# EAGLE library part CON-3M_2540- (library CFT-PB0-revB)
3M (TM) Pak 100 4-Wall Header Source: 3M
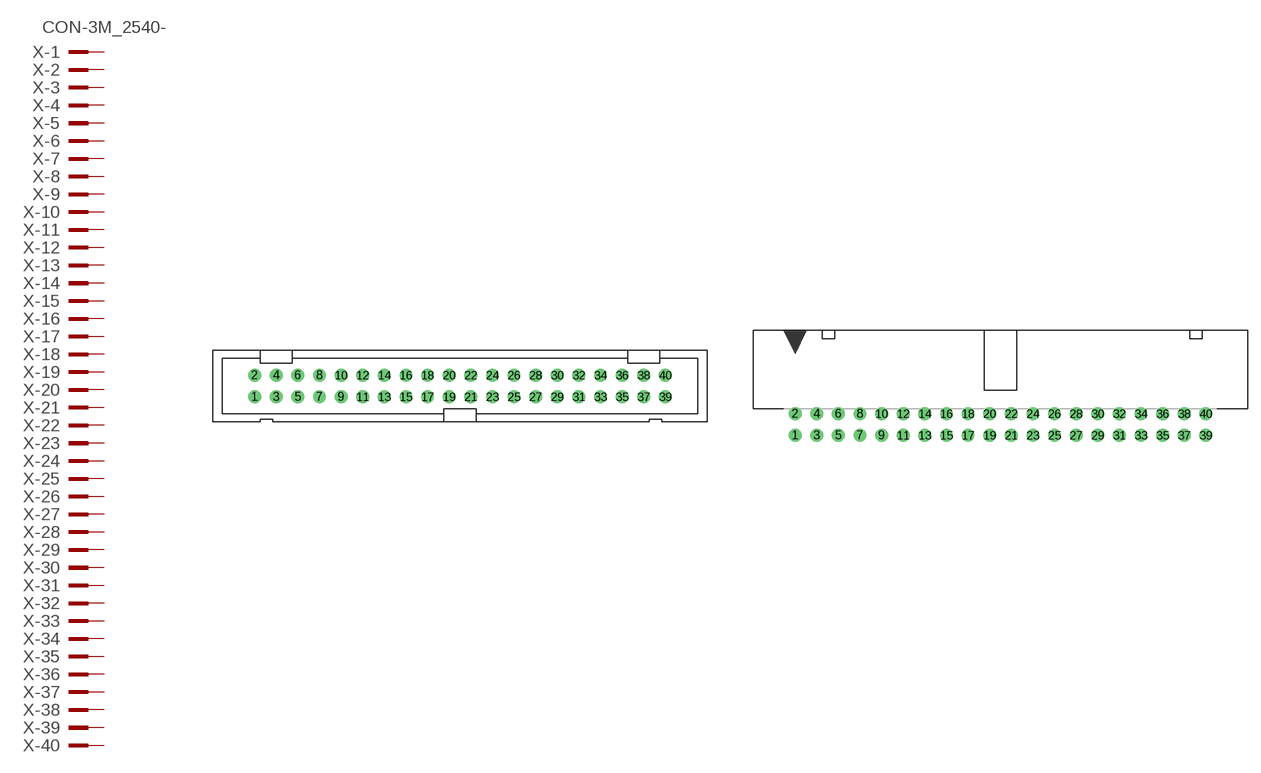
[diagram p10: symbol with the pads of CON-3M_PAK100/2500-40; footprints CON-3M_PAK100/2500-40, CON-3M_PAK100/2500-5-40]

Designator prefix X; gates -1=CON-3M_PINV -2=CON-3M_PIN -3=CON-3M_PIN -4=CON-3M_PIN -5=CON-3M_PIN -6=CON-3M_PIN -7=CON-3M_PIN -8=CON-3M_PIN -9=CON-3M_PIN -10=CON-3M_PIN -11=CON-3M_PIN -12=CON-3M_PIN -13=CON-3M_PIN -14=CON-3M_PIN -15=CON-3M_PIN -16=CON-3M_PIN -17=CON-3M_PIN -18=CON-3M_PIN -19=CON-3M_PIN -20=CON-3M_PIN -21=CON-3M_PIN -22=CON-3M_PIN -23=CON-3M_PIN -24=CON-3M_PIN -25=CON-3M_PIN -26=CON-3M_PIN -27=CON-3M_PIN -28=CON-3M_PIN -29=CON-3M_PIN -30=CON-3M_PIN -31=CON-3M_PIN -32=CON-3M_PIN -33=CON-3M_PIN -34=CON-3M_PIN -35=CON-3M_PIN -36=CON-3M_PIN -37=CON-3M_PIN -38=CON-3M_PIN -39=CON-3M_PIN -40=CON-3M_PIN

## CON-3M_2540- (OC_FARNELL: unknown; OC_NEWARK: unknown)  [CON-3M_PAK100/2500-40]
1  -1:KL  pas
2  -2:KL  pas
3  -3:KL  pas
4  -4:KL  pas
5  -5:KL  pas
6  -6:KL  pas
7  -7:KL  pas
8  -8:KL  pas
9  -9:KL  pas
10  -10:KL  pas
11  -11:KL  pas
12  -12:KL  pas
13  -13:KL  pas
14  -14:KL  pas
15  -15:KL  pas
16  -16:KL  pas
17  -17:KL  pas
18  -18:KL  pas
19  -19:KL  pas
20  -20:KL  pas
21  -21:KL  pas
22  -22:KL  pas
23  -23:KL  pas
24  -24:KL  pas
25  -25:KL  pas
26  -26:KL  pas
27  -27:KL  pas
28  -28:KL  pas
29  -29:KL  pas
30  -30:KL  pas
31  -31:KL  pas
32  -32:KL  pas
33  -33:KL  pas
34  -34:KL  pas
35  -35:KL  pas
36  -36:KL  pas
37  -37:KL  pas
38  -38:KL  pas
39  -39:KL  pas
40  -40:KL  pas

## CON-3M_2540-5 (OC_FARNELL: 9838414; OC_NEWARK: unknown)  [CON-3M_PAK100/2500-5-40]
Pads as for CON-3M_PAK100/2500-40

## Footprint CON-3M_PAK100/2500-40 (pad centres in mm)
3M (TM) Pak 100 4-Wall Header Straight Source: 3M
drill 1 pad 1.422 round: 1 -24.13,-1.27; 2 -24.13,1.27; 3 -21.59,-1.27; 4 -21.59,1.27; 5 -19.05,-1.27; 6 -19.05,1.27; 7 -16.51,-1.27; 8 -16.51,1.27; 9 -13.97,-1.27; 10 -13.97,1.27; 11 -11.43,-1.27; 12 -11.43,1.27; 13 -8.89,-1.27; 14 -8.89,1.27; 15 -6.35,-1.27; 16 -6.35,1.27; 17 -3.81,-1.27; 18 -3.81,1.27; 19 -1.27,-1.27; 20 -1.27,1.27; 21 1.27,-1.27; 22 1.27,1.27; 23 3.81,-1.27; 24 3.81,1.27; 25 6.35,-1.27; 26 6.35,1.27; 27 8.89,-1.27; 28 8.89,1.27; 29 11.43,-1.27; 30 11.43,1.27; 31 13.97,-1.27; 32 13.97,1.27; 33 16.51,-1.27; 34 16.51,1.27; 35 19.05,-1.27; 36 19.05,1.27; 37 21.59,-1.27; 38 21.59,1.27; 39 24.13,-1.27; 40 24.13,1.27

## Footprint CON-3M_PAK100/2500-5-40 (pad centres in mm)
3M (TM) Pak 100 4-Wall Header Right Angle Source: 3M
drill 1 pad 1.422 round: 1 -24.13,-1.27; 2 -24.13,1.27; 3 -21.59,-1.27; 4 -21.59,1.27; 5 -19.05,-1.27; 6 -19.05,1.27; 7 -16.51,-1.27; 8 -16.51,1.27; 9 -13.97,-1.27; 10 -13.97,1.27; 11 -11.43,-1.27; 12 -11.43,1.27; 13 -8.89,-1.27; 14 -8.89,1.27; 15 -6.35,-1.27; 16 -6.35,1.27; 17 -3.81,-1.27; 18 -3.81,1.27; 19 -1.27,-1.27; 20 -1.27,1.27; 21 1.27,-1.27; 22 1.27,1.27; 23 3.81,-1.27; 24 3.81,1.27; 25 6.35,-1.27; 26 6.35,1.27; 27 8.89,-1.27; 28 8.89,1.27; 29 11.43,-1.27; 30 11.43,1.27; 31 13.97,-1.27; 32 13.97,1.27; 33 16.51,-1.27; 34 16.51,1.27; 35 19.05,-1.27; 36 19.05,1.27; 37 21.59,-1.27; 38 21.59,1.27; 39 24.13,-1.27; 40 24.13,1.27